# Altium schematic symbol library Schlib.SchLib: 41 symbols (part 1 of 2)
Pins are listed as number, name and electrical type; pins without a type are passive.

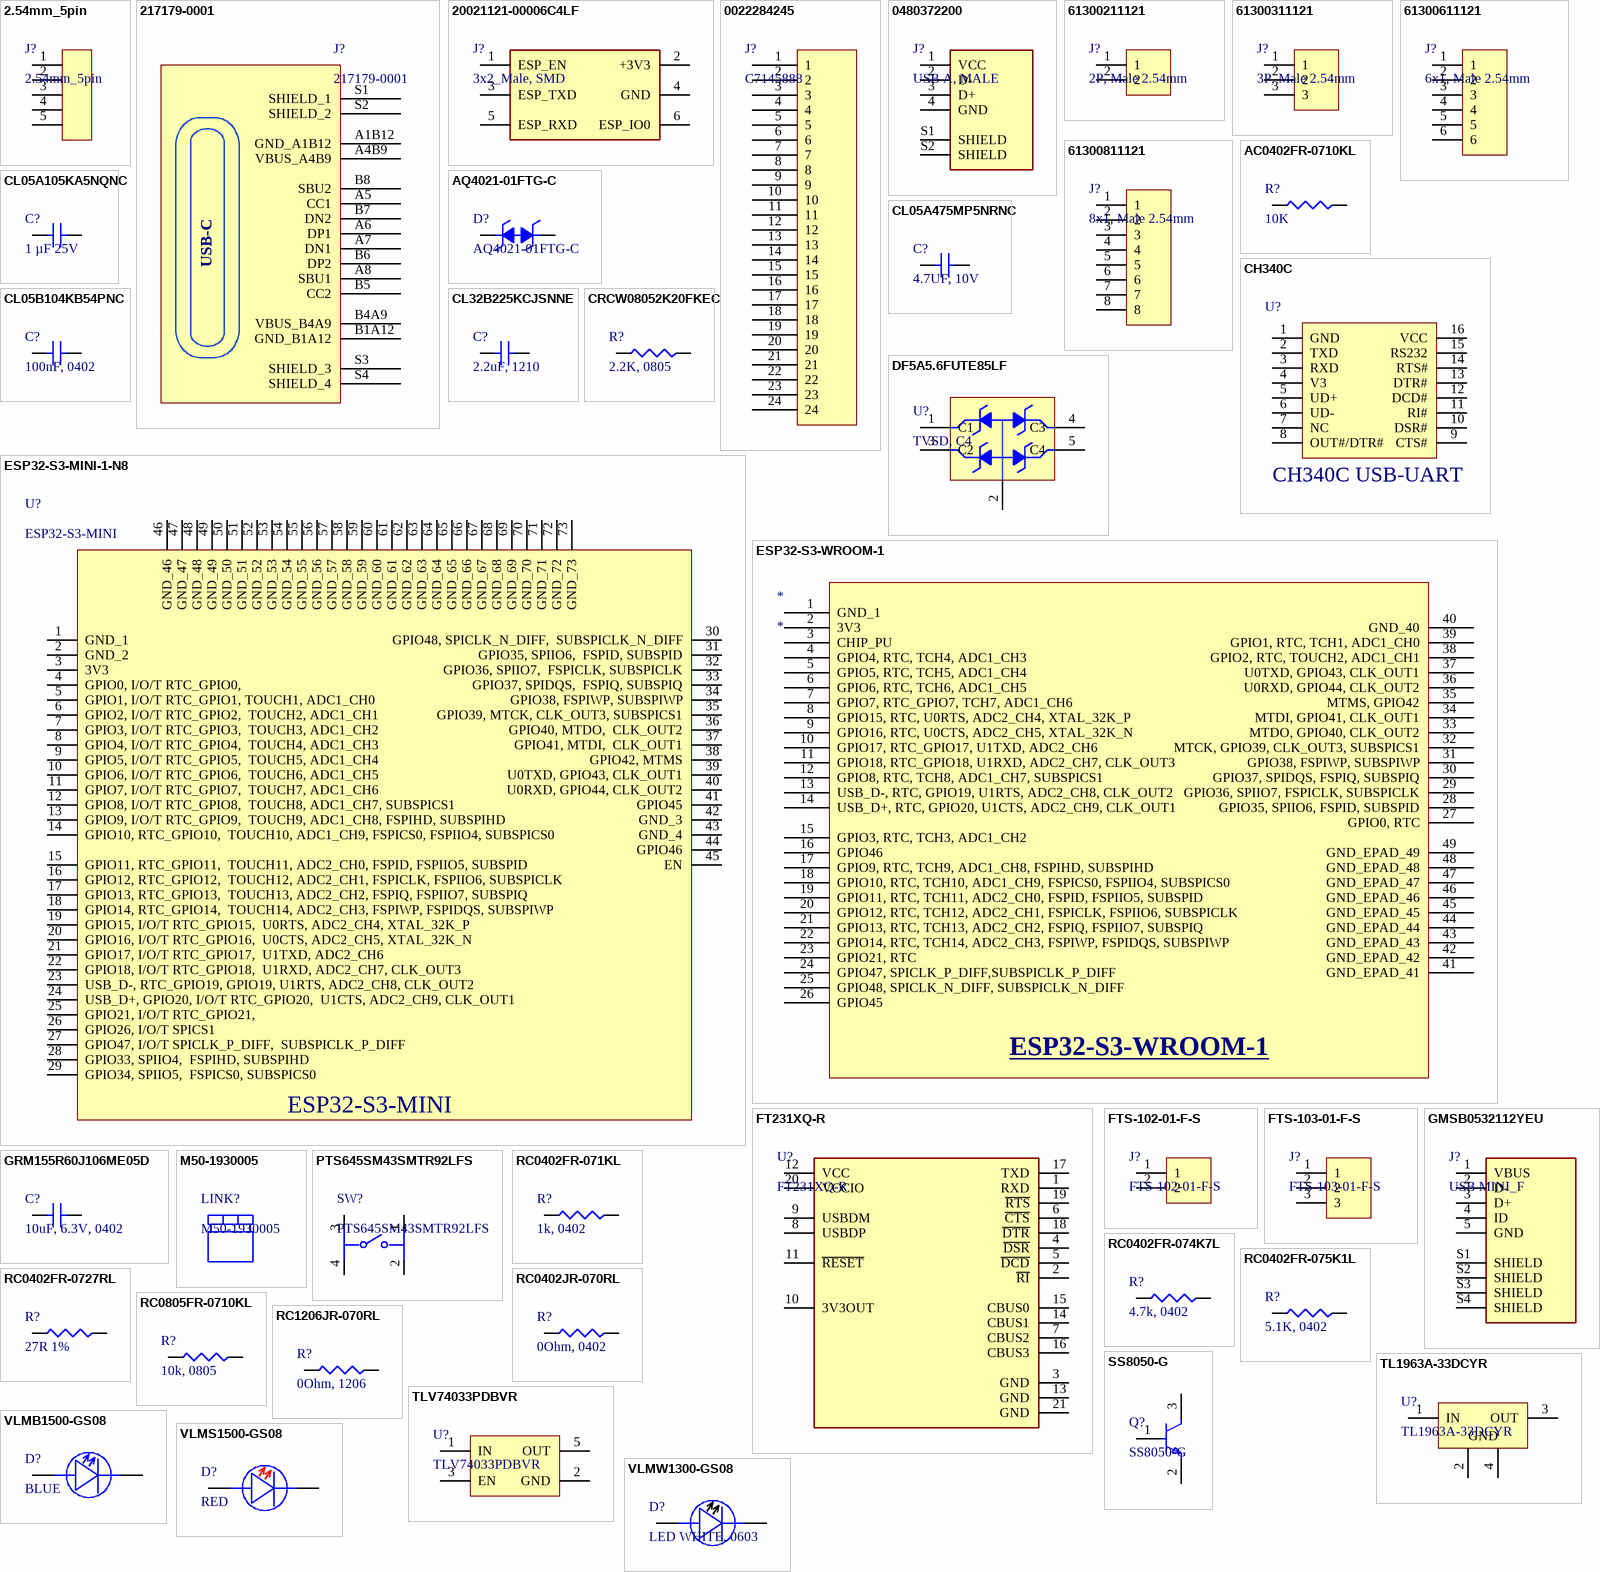
[diagram p0: symbols 2.54mm_5pin to VLMW1300-GS08]

## 2.54mm_5pin
designator J?
CONN HEADER VERT 5POS 2.54MM
footprint 5x1P_Male_2.54
pins: 1, 2, 3, 4, 5

## 217179-0001
designator J?
USB Type C - Connector, Top-mount SMT, 16pos | Molex Incorporated 217179-0001; Supplier: Digikey; Supplier Part Number: 900-2171790001CT-ND; Manufacturer: Molex; Manufacturer Part Number: 217179-0001; RoHS: No; Category: Connectors; Pricing: 1=0.9, 10=0.745, 100=0.6212 (USD); LCSC Part Number: C3197684
footprint USB_C_Female
pins: A1B12 GND_A1B12, A4B9 VBUS_A4B9, A5 CC1, A6 DP1, A7 DN1, A8 SBU1, B1A12 GND_B1A12, B4A9 VBUS_B4A9, B5 CC2, B6 DP2, B7 DN2, B8 SBU2, S1 SHIELD_1, S2 SHIELD_2, S3 SHIELD_3, S4 SHIELD_4
text: USB-C

## 20021121-00006C4LF
designator J?, comment 3x2_Male, SMD
CONN HEADER SMD 6POS 1.27MM; Manufacturer: Amphenol Communications Solutions; Manufacturer Part Number: 20021121-00006C4LF; Supplier: Digikey; Supplier Part Number: 609-3693-1-ND; RoHS: No; Category: Headers and Wire Housings; Stock: 7493; Pricing: 1=0.8, 10=0.612, 100=0.4694 (USD)
footprint 3x2P_Male_SMD_1.27
pins: 1 ESP_EN, 2 +3V3, 3 ESP_TXD, 4 GND, 5 ESP_RXD, 6 ESP_IO0

## 0022284245
designator J?, comment C7145888
CONN HEADER VERT 24POS 2.54MM; Manufacturer: Molex; Manufacturer Part Number: 0022284245; Connector Type: BOARD CONNECTOR; Option: General Purpose; Filter Feature: No; Mating Information: MULTIPLE MATING PARTS AVAILABLE; Number of Rows Loaded: 1; Number of Contacts: 24; Supplier: Digikey; Supplier Part Number: 900-0022284245-ND; RoHS: Yes; Category: Uncategorized; Stock: 2996; Pricing: 1=0.95, 10=0.789, 100=0.6579, 1000=0.57911 (USD); Mounting Technology: Board; Contact Material: Brass; Contact Finish - Mating: GOLD; Contact Finish - Termination: Tin (Sn); JESD-609 Code: e3; Contact Gender: Male; Mixed Contacts: No; Mounting Style: STRAIGHT; Termination: Solder; Terminal Pitch: 2.54mm; Flammability Rating: UL94 V-0; DIN Conformance: No; IEC Conformance: No; MIL Conformance: No; Reach SVHC Compliant: Yes; RoHS Compliant: Yes; ComponentLink1URL: https://datasheet.ciiva.com:443/pdfs/VipMasterIC/IC/MOLE/MOLE-S-A0006764423/MOLE-S-A0006877704-1.pdf?src-supplier=IHS+Markit; ComponentLink1Description: https://datasheet.ciiva.com:443/pdfs/VipMasterIC/IC/MOLE/MOLE-S-A0006764423/MOLE-S-A0006877704-1.pdf?src-supplier=IHS+Markit; ComponentLink2URL: https://datasheet.ciiva.com/6814/022284363-sd-6814049.pdf?src-supplier=Digikey; ComponentLink2Description: https://datasheet.ciiva.com/6814/022284363-sd-6814049.pdf?src-supplier=Digikey; ComponentLink3URL: https://datasheet.ciiva.com/10075/0022284245-pcb-headers-10075617.pdf?src-supplier=Avnet; ComponentLink3Description: https://datasheet.ciiva.com/10075/0022284245-pcb-headers-10075617.pdf?src-supplier=Avnet; ComponentLink4URL: https://datasheet.ciiva.com/5153/0022284245-pcb-headers-228340-5153875.pdf?src-supplier=Mouser; ComponentLink4Description: https://datasheet.ciiva.com/5153/0022284245-pcb-headers-228340-5153875.pdf?src-supplier=Mouser; ComponentLink5URL: https://datasheet.ciiva.com/1433/1597854-1433759.pdf?src-supplier=Element14; ComponentLink5Description: https://datasheet.ciiva.com/1433/1597854-1433759.pdf?src-supplier=Element14; LCSC Part Number: C7145888
footprint 24x1P_Male_2.54
pins: 1, 2, 3, 4, 5, 6, 7, 8, 9, 10, 11, 12, 13, 14, 15, 16, 17, 18, 19, 20, 21, 22, 23, 24

## 0480372200
designator J?, comment USB A, MALE
CONN PLUG USB2.0 TYPEA 4P SMD RA; Manufacturer: Molex; Manufacturer Part Number: 0480372200; Option: General Purpose; Empty Shell: No; Number of Contacts: 4; Mating Information: MULTIPLE MATING PARTS AVAILABLE; Supplier: Digikey; Supplier Part Number: WM3983CT-ND; RoHS: Yes; Stock: 18158; Pricing: 1=1.45, 10=1.199, 100=0.9993 (USD); Mounting Technology: Panel,Board; Contact Finish - Mating: GOLD (30); Contact Finish - Termination: TIN; Connector Type: USB; Body/Shell Style: PLUG; Contact Gender: Male; Filter Feature: No; Mixed Contacts: No; Mounting Style: RIGHT ANGLE; Termination: SMD/SMT; JESD-609 Code: e3; Reach SVHC Compliant: Yes; RoHS Compliant: Yes; DIN Conformance: No; IEC Conformance: No; MIL Conformance: No; ComponentLink1URL: https://datasheet.ciiva.com:443/pdfs/VipMasterIC/IC/MOLE/MOLES33218/MOLES28897-1.pdf?src-supplier=IHS+Markit; ComponentLink1Description: https://datasheet.ciiva.com:443/pdfs/VipMasterIC/IC/MOLE/MOLES33218/MOLES28897-1.pdf?src-supplier=IHS+Markit
footprint USB_A_MALE
pins: 1 VCC (power), 2 D-, 3 D+, 4 GND (power), S1 SHIELD, S2 SHIELD

## 61300211121
designator J?, comment 2P, Male 2.54mm
CONN HEADER VERT 2POS 2.54MM; Manufacturer: Wurth Electronics; Manufacturer Part Number: 61300211121; Connector Type: BOARD CONNECTOR; Option: General Purpose; Body/Shell Style: PLUG; Contact Pattern: RECTANGULAR; Contact Resistance: 20mR; Contact Style: SQ PIN-SKT; Dielectric Withstanding Voltage (AC): 500V; Filter Feature: No; Insulation Resistance: 1GR; Number Of Connectors: 1; Rated Current (Signal): 3A; Number of Contacts: 2; Body Breadth: 0.1inch; Body Length: 0.2inch; Mounting Option 1: LOCKING; Reference Standard: UL; Reliability: COMMERCIAL; Supplier: Digikey; Supplier Part Number: 732-5315-ND; RoHS: Yes; Category: Headers and Wire Housings; Stock: 71745; Pricing: 1=0.13, 10=0.113, 25=0.094, 50=0.079, 100=0.071, 1000=0.065 (USD); Mounting Technology: Board; Contact Material: Copper Alloy; Contact Finish - Mating: GOLD; Contact Finish - Termination: Gold (Au) - with Nickel (Ni) barrier; Insulation Color: Black; Insulation Material: Polybutylene; Min Operating Temperature: -40°C; Max Operating Temperature: 125°C; JESD-609 Code: e4; Contact Gender: Male; Mixed Contacts: No; Mounting Style: STRAIGHT; Number of Rows Loaded: 1; PCB Contact Pattern: RECTANGULAR; Termination: Solder; Body Depth: 0.1inch; Mating Contact Pitch: 0.1inch; Terminal Length: 0.118inch; Terminal Pitch: 2.54mm; Flammability Rating: UL94 V-0; Reach SVHC Compliant: Yes; RoHS Compliant: Yes; DIN Conformance: No; IEC Conformance: No; MIL Conformance: No; ComponentLink1URL: https://datasheet.ciiva.com:443/pdfs/VipMasterIC/IC/MIDC/MIDCS07676/MIDCS07676-1.pdf?src-supplier=IHS+Markit; ComponentLink1Description: https://datasheet.ciiva.com:443/pdfs/VipMasterIC/IC/MIDC/MIDCS07676/MIDCS07676-1.pdf?src-supplier=IHS+Markit; ComponentLink2URL: https://datasheet.ciiva.com/13619/6130xx11121-48870-13619345.pdf?src-supplier=Mouser; ComponentLink2Description: https://datasheet.ciiva.com/13619/6130xx11121-48870-13619345.pdf?src-supplier=Mouser
footprint 2x1P_Male_2.54 (Pin Header, pitch 2.54 mm, THT, Vertical, single row, 2p)
pins: 1, 2

## 61300311121
designator J?, comment 3P, Male 2.54mm
CONN HEADER VERT 3POS 2.54MM; Manufacturer: Wurth Electronics; Manufacturer Part Number: 61300311121; Connector Type: BOARD CONNECTOR; Body/Shell Style: PLUG; Contact Pattern: RECTANGULAR; Contact Resistance: 20mR; Contact Style: SQ PIN-SKT; Dielectric Withstanding Voltage (AC): 500V; Insulation Resistance: 1GR; Number Of Connectors: 1; Rated Current (Signal): 3A; Number of Contacts: 3; Body Breadth: 0.1inch; Body Length: 0.3inch; Mounting Option 1: LOCKING; Reference Standard: UL; Reliability: COMMERCIAL; Supplier: Digikey; Supplier Part Number: 732-5316-ND; RoHS: Yes; Category: Headers and Wire Housings; Stock: 134142; Pricing: 1=0.13, 10=0.113, 25=0.094, 50=0.079, 100=0.071, 1000=0.066 (USD); Mounting Technology: Board; Contact Material: Copper Alloy; Contact Finish - Mating: GOLD; Contact Finish - Termination: Gold (Au) - with Nickel (Ni) barrier; Insulation Color: Black; Insulation Material: Polybutylene; Min Operating Temperature: -40°C; Max Operating Temperature: 125°C; JESD-609 Code: e4; Contact Gender: Male; Mounting Style: STRAIGHT; Number of Rows Loaded: 1; PCB Contact Pattern: RECTANGULAR; Termination: Solder; Body Depth: 0.1inch; Mating Contact Pitch: 0.1inch; Terminal Length: 0.118inch; Terminal Pitch: 2.54mm; Reach SVHC Compliant: Yes; RoHS Compliant: Yes; ComponentLink1URL: https://datasheet.ciiva.com:443/pdfs/VipMasterIC/IC/MIDC/MIDCS07676/MIDCS07676-1.pdf?src-supplier=IHS+Markit; ComponentLink1Description: https://datasheet.ciiva.com:443/pdfs/VipMasterIC/IC/MIDC/MIDCS07676/MIDCS07676-1.pdf?src-supplier=IHS+Markit; ComponentLink2URL: http://www.farnell.com/cad/1737268.pdf?src-supplier=Element14; ComponentLink2Description: http://www.farnell.com/cad/1737268.pdf?src-supplier=Element14; ComponentLink3URL: https://datasheet.octopart.com/61300311121-W%C3%BCrth-Elektronik-datasheet-21154836.pdf?src-supplier=Element14; ComponentLink3Description: https://datasheet.octopart.com/61300311121-W%C3%BCrth-Elektronik-datasheet-21154836.pdf?src-supplier=Element14; ComponentLink4URL: https://katalog.we-online.de/em/datasheet/6130xx11121.pdf?src-supplier=Digikey; ComponentLink4Description: https://katalog.we-online.de/em/datasheet/6130xx11121.pdf?src-supplier=Digikey
footprint 3x1P_Male_2.54 (Pin Header, pitch 2.54 mm, THT, Vertical, single row, 3p)
pins: 1, 2, 3

## 61300611121
designator J?, comment 6x1, Male 2.54mm
Connector Header Through Hole 6 position 0.100" (2.54mm); Manufacturer: Wurth Electronics; Manufacturer Part Number: 61300611121; Connector Type: BOARD CONNECTOR; Body/Shell Style: PLUG; Contact Pattern: RECTANGULAR; Contact Resistance: 20mR; Contact Style: SQ PIN-SKT; Dielectric Withstanding Voltage (AC): 500V; Insulation Resistance: 1GR; Number Of Connectors: 1; Rated Current (Signal): 3A; Number of Contacts: 6; Body Breadth: 0.1inch; Body Length: 0.6inch; Mounting Option 1: LOCKING; Reference Standard: UL; Reliability: COMMERCIAL; Supplier: Digikey; Supplier Part Number: 732-5319-ND; RoHS: Yes; Category: Headers and Wire Housings; Stock: 21798; Pricing: 1=0.34, 10=0.298, 25=0.2472, 50=0.207, 100=0.187, 1000=0.171 (USD); Mounting Technology: Board; Contact Material: Copper Alloy; Contact Finish - Mating: GOLD; Contact Finish - Termination: Gold (Au) - with Nickel (Ni) barrier; Insulation Color: Black; Insulation Material: Polybutylene; Min Operating Temperature: -40°C; Max Operating Temperature: 125°C; JESD-609 Code: e4; Contact Gender: Male; Mounting Style: STRAIGHT; Number of Rows Loaded: 1; PCB Contact Pattern: RECTANGULAR; Termination: Solder; Body Depth: 0.1inch; Mating Contact Pitch: 0.1inch; Terminal Length: 0.118inch; Terminal Pitch: 2.54mm; Reach SVHC Compliant: Yes; RoHS Compliant: Yes; ComponentLink1URL: https://datasheet.ciiva.com:443/pdfs/VipMasterIC/IC/MIDC/MIDCS07676/MIDCS07676-1.pdf?src-supplier=IHS+Markit; ComponentLink1Description: https://datasheet.ciiva.com:443/pdfs/VipMasterIC/IC/MIDC/MIDCS07676/MIDCS07676-1.pdf?src-supplier=IHS+Markit; ComponentLink2URL: http://www.mouser.com/ds/2/445/6130xx11121-538006.pdf?src-supplier=Mouser; ComponentLink2Description: http://www.mouser.com/ds/2/445/6130xx11121-538006.pdf?src-supplier=Mouser; ComponentLink3URL: http://www.farnell.com/cad/1737268.pdf?src-supplier=Element14; ComponentLink3Description: http://www.farnell.com/cad/1737268.pdf?src-supplier=Element14; ComponentLink4URL: https://datasheet.octopart.com/61300611121-W%C3%BCrth-Elektronik-datasheet-21154836.pdf?src-supplier=Element14; ComponentLink4Description: https://datasheet.octopart.com/61300611121-W%C3%BCrth-Elektronik-datasheet-21154836.pdf?src-supplier=Element14; ComponentLink5URL: https://katalog.we-online.de/em/datasheet/6130xx11121.pdf?src-supplier=Digikey; ComponentLink5Description: https://katalog.we-online.de/em/datasheet/6130xx11121.pdf?src-supplier=Digikey
footprint 6x1P_Male_2.54 (Pin Header, pitch 2.54 mm, THT, Vertical, single row, 6p)
pins: 1, 2, 3, 4, 5, 6

## 61300811121
designator J?, comment 8x1, Male 2.54mm
CONN HEADER VERT 8POS 2.54MM; Manufacturer: Wurth Electronics; Manufacturer Part Number: 61300811121; Manufacturer Series: 613; Connector Type: BOARD CONNECTOR; Body/Shell Style: PLUG; Contact Pattern: RECTANGULAR; Contact Resistance: 20mR; Contact Style: SQ PIN-SKT; Dielectric Withstanding Voltage (AC): 500V; Insulation Resistance: 1GR; Number Of Connectors: 1; Rated Current (Signal): 3A; Number of Contacts: 8; Body Breadth: 0.1inch; Body Length: 0.8inch; Mounting Option 1: LOCKING; Reference Standard: UL; Reliability: COMMERCIAL; Supplier: Digikey; Supplier Part Number: 732-5321-ND; RoHS: Yes; Category: Headers and Wire Housings; Stock: 8009; Pricing: 1=0.39, 10=0.336, 25=0.28, 50=0.234, 100=0.212, 1000=0.193 (USD); Mounting Technology: Board; Contact Material: Copper Alloy; Contact Finish - Mating: AU; Contact Finish - Termination: Gold (Au) - with Nickel (Ni) barrier; Insulation Color: Black; Insulation Material: Polybutylene; Min Operating Temperature: -40°C; Max Operating Temperature: 125°C; JESD-609 Code: e4; Contact Gender: Male; Mounting Style: STRAIGHT; Number of Rows Loaded: 1; PCB Contact Pattern: RECTANGULAR; Termination: Solder; Body Depth: 0.1inch; Mating Contact Pitch: 0.1inch; Terminal Length: 0.118inch; Terminal Pitch: 2.54mm; Reach SVHC Compliant: Yes; RoHS Compliant: Yes; ComponentLink1URL: https://datasheet.ciiva.com:443/pdfs/VipMasterIC/IC/MIDC/MIDCS07676/MIDCS07676-1.pdf?src-supplier=IHS+Markit; ComponentLink1Description: https://datasheet.ciiva.com:443/pdfs/VipMasterIC/IC/MIDC/MIDCS07676/MIDCS07676-1.pdf?src-supplier=IHS+Markit; ComponentLink2URL: https://datasheet.octopart.com/61300811121-W%C3%BCrth-Elektronik-datasheet-21154836.pdf?src-supplier=Element14; ComponentLink2Description: https://datasheet.octopart.com/61300811121-W%C3%BCrth-Elektronik-datasheet-21154836.pdf?src-supplier=Element14; ComponentLink3URL: https://katalog.we-online.de/em/datasheet/6130xx11121.pdf?src-supplier=Digikey; ComponentLink3Description: https://katalog.we-online.de/em/datasheet/6130xx11121.pdf?src-supplier=Digikey
footprint 8x1P_Male_2.54 (Pin Header, pitch 2.54 mm, THT, Vertical, single row, 8p)
pins: 1, 2, 3, 4, 5, 6, 7, 8

## AC0402FR-0710KL
designator R?, comment 10K
10 kOhm, ± 1%, 62.5 mW, 0402 [1005 Metric], SMD Chip Resistor, Thick Film, General Purpose; Manufacturer: Yageo; Manufacturer Part Number: AC0402FR-0710KL; Value: 10kR; Power Rating: 62.5mW; Voltage Rating: 50V; Temperature Coefficient: 100ppm/°C; Max Power Dissipation: 63mW; Supplier: Digikey; Supplier Part Number: YAG3436CT-ND; RoHS: Yes; Category: Chip SMD Resistors; Stock: 2394753; Pricing: 1=0.1, 10=0.019, 50=0.0116, 100=0.0095, 500=0.00638, 1000=0.00544, 5000=0.00391 (USD); Case/Package: 0402; Case Code (Imperial): 0402; Case Code (Metric): 1005; Min Operating Temperature: -55°C; Max Operating Temperature: 155°C; Tolerance: 1%; Packaging: Tape and Reel; Termination: SMD/SMT; Number of Terminations: 2; Features: Moisture Resistant,Automotive AEC-Q200; Series: AC; Length: 0.039inch; Width: 0.02inch; Height: 0.015inch; Lead Free: Lead Free; RoHS Compliant: Yes; ComponentLink1URL: https://datasheet.ciiva.com/12656/pyu-ac-51-rohs-l-2-12656634.pdf?src-supplier=Mouser; ComponentLink1Description: https://datasheet.ciiva.com/12656/pyu-ac-51-rohs-l-2-12656634.pdf?src-supplier=Mouser; LCSC Part Number: C144807
footprint RES_0402
pins: 1, 2

## AQ4021-01FTG-C
designator D?
TVS DIODE 5VWM 20.5VC SOD323; Manufacturer: Littelfuse; Diode Type: TRANS VOLTAGE SUPPRESSOR; Time @ Peak Reflow Temperature-Max (s): 40s; Supplier: Digikey; Supplier Part Number: F10397CT-ND; Manufacturer Part Number: AQ4021-01FTG-C; RoHS: Yes; Category: TVS Diodes; Stock: 6289; Pricing: 1=0.57, 10=0.498, 100=0.3447, 500=0.28802, 1000=0.24513 (USD); Terminal Finish: Tin; JESD-609 Code: e3; Moisture Sensitivity Level: 1; Peak Reflow Temperature (Cel): 260°C; Reach SVHC Compliant: Yes; RoHS Compliant: Yes; ComponentLink1URL: https://datasheet.ciiva.com:443/pdfs/VipMasterIC/IC/LFSI/LFSI-S-A0009000937/LFSI-S-A0009000937-1.pdf?src-supplier=IHS+Markit; ComponentLink1Description: https://datasheet.ciiva.com:443/pdfs/VipMasterIC/IC/LFSI/LFSI-S-A0009000937/LFSI-S-A0009000937-1.pdf?src-supplier=IHS+Markit; ComponentLink2URL: http://www.farnell.com/datasheets/2571805.pdf?src-supplier=Farnell; ComponentLink2Description: http://www.farnell.com/datasheets/2571805.pdf?src-supplier=Farnell; ComponentLink3URL: http://www.farnell.com/datasheets/2571805.pdf?src-supplier=Newark; ComponentLink3Description: http://www.farnell.com/datasheets/2571805.pdf?src-supplier=Newark; ComponentLink4URL: http://www.littelfuse.com/~/media/electronics/datasheets/tvs_diode_arrays/littelfuse_tvs_diode_array_aq4021_datasheet.pdf.pdf?src-supplier=Digikey; ComponentLink4Description: http://www.littelfuse.com/~/media/electronics/datasheets/tvs_diode_arrays/littelfuse_tvs_diode_array_aq4021_datasheet.pdf.pdf?src-supplier=Digikey; ComponentLink5URL: https://www.littelfuse.com/~/media/electronics/datasheets/tvs_diode_arrays/littelfuse_tvs_diode_array_aq4021_datasheet.pdf.pdf?src-supplier=Digikey; ComponentLink5Description: https://www.littelfuse.com/~/media/electronics/datasheets/tvs_diode_arrays/littelfuse_tvs_diode_array_aq4021_datasheet.pdf.pdf?src-supplier=Digikey; LCSC Part Number: C708873
footprint SOD323
pins: 1, 2

## CH340C
designator U?, comment USB-UART  (value not drawn)
SOP-16 USB to UART Converters
footprint SOP16
pins: 1 GND, 2 TXD, 3 RXD, 4 V3, 5 UD+, 6 UD-, 7 NC, 8 OUT#/DTR#, 9 CTS#, 10 DSR#, 11 RI#, 12 DCD#, 13 DTR#, 14 RTS#, 15 RS232, 16 VCC
text: CH340C USB-UART

## CL05A105KA5NQNC
designator C?, comment 1 µF 25V
1 µF ±10% 25V Ceramic Capacitor X5R 0402 (1005 Metric); Manufacturer: Samsung; Manufacturer Part Number: CL05A105KA5NQNC; Value: 1uF; Multilayer: Yes; Supplier: Digikey; Supplier Part Number: 1276-1445-1-ND; RoHS: Yes; Category: Ceramic Capacitors; Stock: 1937229; Pricing: 1=0.18, 10=0.124, 50=0.0742, 100=0.0584, 500=0.04312, 1000=0.0357, 2500=0.03323, 5000=0.0304 (USD); Mounting Technology: Surface Mount; Pins: 2; Case/Package: 0402; Terminal Finish: Nickel; Dielectric Material: Ceramic; Package Shape: Rectangular; Min Operating Temperature: -55°C; Max Operating Temperature: 85°C; JESD-609 Code: e3; Package Style: SMTMeter; Packaging: Tape and Reel; Termination: Wraparound; Capacitor Type: Ceramic; Tolerance  (fill in as +-): 10%; Tolerance (fill in as +-): 10%; Rated DC Voltage (URdc): 25V; Temperature Characteristics Code: X5R; Length: 1mm; Width: 0.5mm; Height: 0.6mm; Reach SVHC Compliant: Yes; RoHS Compliant: Yes; ComponentLink1URL: https://datasheet.ciiva.com:443/pdfs/VipMasterIC/IC/SEMS/SEMS-S-A0008384515/SEMS-S-A0008872946-1.pdf?src-supplier=IHS+Markit; ComponentLink1Description: https://datasheet.ciiva.com:443/pdfs/VipMasterIC/IC/SEMS/SEMS-S-A0008384515/SEMS-S-A0008872946-1.pdf?src-supplier=IHS+Markit; ComponentLink2URL: https://datasheet.ciiva.com/25720/cl05a105ka5nqnc-25720771.pdf?src-supplier=Digikey; ComponentLink2Description: https://datasheet.ciiva.com/25720/cl05a105ka5nqnc-25720771.pdf?src-supplier=Digikey; ComponentLink3URL: https://datasheet.ciiva.com/3777/cl05a105ka5nqnc-3777709.pdf?src-supplier=Arrow+Electronics; ComponentLink3Description: https://datasheet.ciiva.com/3777/cl05a105ka5nqnc-3777709.pdf?src-supplier=Arrow+Electronics; ComponentLink4URL: https://datasheet.ciiva.com/29198/459147-da-01-en-vs-kondensator-0402-29198339.pdf?src-supplier=Conrad; ComponentLink4Description: https://datasheet.ciiva.com/29198/459147-da-01-en-vs-kondensator-0402-29198339.pdf?src-supplier=Conrad; LCSC Part Number: C52923
footprint CAP_0402
pins: 1, 2

## CL05A475MP5NRNC
designator C?, comment 4.7UF, 10V
CAP CER 4.7UF 10V X5R 0402; Manufacturer: Samsung; Manufacturer Part Number: CL05A475MP5NRNC; Dielectric Material: Ceramic; Multilayer: Yes; Tolerance  (fill in as +-): 20%; Supplier: Digikey; Supplier Part Number: 1276-1482-1-ND; RoHS: Yes; Category: Ceramic Capacitors; Stock: 2427092; Pricing: 1=0.1, 10=0.064, 50=0.0368, 100=0.0286, 500=0.0215, 1000=0.01689, 2500=0.01535, 5000=0.01412 (USD); Mounting Technology: Surface Mount; Pins: 2; Package Shape: Rectangular; Case/Package: 0402; Terminal Finish: Nickel; Min Operating Temperature: -55°C; Max Operating Temperature: 85°C; JESD-609 Code: e3; Value: 4.7uF; Capacitor Type: Ceramic; Package Style: SMTMeter; Packaging: Tape and Reel; Tolerance (fill in as +-): 20%; Rated DC Voltage (URdc): 10V; Temperature Characteristics Code: X5R; Termination: Wraparound; Length: 1mm; Width: 0.5mm; Height: 0.65mm; Reach SVHC Compliant: Yes; RoHS Compliant: Yes; ComponentLink1URL: https://datasheet.ciiva.com:443/pdfs/VipMasterIC/IC/SEMS/SEMS-S-A0009022611/SEMS-S-A0009022611-1.pdf?src-supplier=IHS+Markit; ComponentLink1Description: https://datasheet.ciiva.com:443/pdfs/VipMasterIC/IC/SEMS/SEMS-S-A0009022611/SEMS-S-A0009022611-1.pdf?src-supplier=IHS+Markit; ComponentLink2URL: https://datasheet.ciiva.com/25786/cl05a475mp5nrnc-25786963.pdf?src-supplier=Digikey; ComponentLink2Description: https://datasheet.ciiva.com/25786/cl05a475mp5nrnc-25786963.pdf?src-supplier=Digikey; ComponentLink3URL: https://datasheet.ciiva.com/16437/cl05b104kq5nnnc-16437353.pdf?src-supplier=Future+Electronics; ComponentLink3Description: https://datasheet.ciiva.com/16437/cl05b104kq5nnnc-16437353.pdf?src-supplier=Future+Electronics; LCSC Part Number: C23733
footprint CAP_0402
pins: 1, 2

## CL05B104KB54PNC
designator C?, comment 100nF, 0402
0.1 µF ±10% 50V Ceramic Capacitor X7R 0402 (1005 Metric); Manufacturer: Samsung; Manufacturer Part Number: CL05B104KB54PNC; Material: 4241ConductorMaterial; Supplier: Arrow Electronics; Supplier Part Number: CL05B104KB54PNC; RoHS: Yes; Category: Ceramic Capacitors; Stock: 2120000; Pricing: 10000=0.0057 (USD); Case/Package: 343Case; Min Operating Temperature: -55°C; Max Operating Temperature: 125°C; Tolerance: 10%; Voltage Rating: 50V; Value: 100nF; Height: 550um; RoHS Compliant: Yes; ComponentLink1URL: https://datasheet.octopart.com/CL05B104KB54PNC-Samsung-datasheet-8326407.pdf?src-supplier=TME; ComponentLink1Description: https://datasheet.octopart.com/CL05B104KB54PNC-Samsung-datasheet-8326407.pdf?src-supplier=TME; LCSC Part Number: C307331
footprint CAP_0402
pins: 1, 2

## CL32B225KCJSNNE
designator C?, comment 2.2uF, 1210
CAP CER 2.2UF 100V X7R 1210; Manufacturer: Samsung; Manufacturer Part Number: CL32B225KCJSNNE; Dielectric Material: Ceramic; Multilayer: Yes; Tolerance  (fill in as +-): 10%; Supplier: Digikey; Supplier Part Number: 1276-3362-6-ND; RoHS: Yes; Category: Ceramic Capacitors; Stock: 239814; Pricing: 1=0.43, 10=0.286, 50=0.228, 100=0.1882, 500=0.14706 (USD); Mounting Technology: Surface Mount; Pins: 2; Package Shape: Rectangular; Case/Package: 1210; Terminal Finish: Nickel; Min Operating Temperature: -55°C; Max Operating Temperature: 125°C; JESD-609 Code: e3; Value: 2.2uF; Capacitor Type: Ceramic; Packaging: Tape and Reel; Tolerance (fill in as +-): 10%; Rated DC Voltage (URdc): 100V; Temperature Characteristics Code: X7R; Termination: Wraparound; Reach SVHC Compliant: Yes; RoHS Compliant: Yes; ComponentLink1URL: https://datasheet.ciiva.com:443/pdfs/VipMasterIC/IC/SEMS/SEMS-S-A0008526420/SEMS-S-A0008525306-1.pdf?src-supplier=IHS+Markit; ComponentLink1Description: https://datasheet.ciiva.com:443/pdfs/VipMasterIC/IC/SEMS/SEMS-S-A0008526420/SEMS-S-A0008525306-1.pdf?src-supplier=IHS+Markit; ComponentLink2URL: https://datasheet.ciiva.com/25791/cl32b225kcjsnne-25791527.pdf?src-supplier=Digikey; ComponentLink2Description: https://datasheet.ciiva.com/25791/cl32b225kcjsnne-25791527.pdf?src-supplier=Digikey; ComponentLink3URL: https://datasheet.ciiva.com/26947/getdatasheetpartid-357497-26947037.pdf?src-supplier=Verical; ComponentLink3Description: https://datasheet.ciiva.com/26947/getdatasheetpartid-357497-26947037.pdf?src-supplier=Verical; ComponentLink4URL: https://datasheet.ciiva.com/16437/cl32b225kcjsnne-16437175.pdf?src-supplier=Future+Electronics; ComponentLink4Description: https://datasheet.ciiva.com/16437/cl32b225kcjsnne-16437175.pdf?src-supplier=Future+Electronics
footprint CAP_1210
pins: 1, 2

## CRCW08052K20FKEC
designator R?, comment 2.2K, 0805
RES SMD 2.2K OHM 1% 1/8W 0805; Manufacturer: Vishay Dale; Manufacturer Part Number: CRCW08052K20FKEC; Power: 125mW; Rated Temperature: 70°C; Value: 2.2kR; Temperature Coefficient: 100ppm/°C; Working Voltage: 150V; Package Height: 0.45mm; Package Length: 2mm; Package Width: 1.25mm; Reference Standard: AEC-Q200; Supplier: Digikey; Supplier Part Number: 541-CRCW08052K20FKECCT-ND; RoHS: Yes; Category: Chip SMD Resistors; Stock: 19945; Pricing: 1=0.1, 10=0.039, 50=0.025, 100=0.021, 500=0.01444, 1000=0.0125, 5000=0.00933, 10000=0.00838 (USD); Mounting Technology: Surface Mount; Pins: 2; Package Shape: Rectangular; Case/Package: 0805; Terminal Finish: Nickel; Min Operating Temperature: -55°C; Max Operating Temperature: 155°C; Tolerance: 1%; JESD-609 Code: e3; Resistor Type: FIXED RESISTOR; Construction: Chip; Package Style: SMTMeter; Packaging: Tape and Reel; Technology: METAL GLAZE/THICK FILM; Termination: Wraparound; Reach SVHC Compliant: Yes; RoHS Compliant: Yes; ComponentLink1URL: https://datasheet.ciiva.com:443/pdfs/VipMasterIC/IC/VISH/VISH-S-A0007266705/VISH-S-A0007266705-1.pdf?src-supplier=IHS+Markit; ComponentLink1Description: https://datasheet.ciiva.com:443/pdfs/VipMasterIC/IC/VISH/VISH-S-A0007266705/VISH-S-A0007266705-1.pdf?src-supplier=IHS+Markit; ComponentLink2URL: http://www.vishay.com/docs/20035/dcrcwe3.pdf?src-supplier=Digikey; ComponentLink2Description: http://www.vishay.com/docs/20035/dcrcwe3.pdf?src-supplier=Digikey
footprint RES_0805
pins: 1, 2

## DF5A5.6FUTE85LF
designator U?, comment TVSD, C4
TVS Quad Common Anode 5.6V 200mW 5-Pin SOT-353 Embossed T/R; Manufacturer: Toshiba; Manufacturer Part Number: DF5A5.6FUTE85LF; Supplier: Digikey; Supplier Part Number: DF5A5.6FUTE85LFCT-ND; RoHS: Yes; Category: TVS Diodes; Stock: 11607; Pricing: 1=0.34, 10=0.21, 100=0.1318, 500=0.09776, 1000=0.08675 (USD); ComponentLink1URL: https://datasheet.ciiva.com/29853/dst-df5a5-6fu-tde-en-9420-29853417.pdf?src-supplier=Digikey; ComponentLink1Description: https://datasheet.ciiva.com/29853/dst-df5a5-6fu-tde-en-9420-29853417.pdf?src-supplier=Digikey; ComponentLink2URL: https://datasheet.ciiva.com/29853/dst-df5a5-6fu-tde-en-9420-29853419.pdf?src-supplier=Digikey; ComponentLink2Description: https://datasheet.ciiva.com/29853/dst-df5a5-6fu-tde-en-9420-29853419.pdf?src-supplier=Digikey; ComponentLink3URL: https://datasheet.ciiva.com/29853/dst-df5a5-6fu-tde-en-9420-29853418.pdf?src-supplier=Digikey; ComponentLink3Description: https://datasheet.ciiva.com/29853/dst-df5a5-6fu-tde-en-9420-29853418.pdf?src-supplier=Digikey
footprint SOT353 (SOTFL, 5-Leads, Body 2.01x2.11mm, Pitch 0.65mm, IPC Medium Density)
pins: 1 C1, 2 A, 3 C2, 4 C3, 5 C4

## ESP32-S3-MINI-1-N8
designator U?, comment ESP32-S3-MINI
ESP32-S3FN8, 8 MB SPI flash, PCB antenna; Manufacturer: Espressif Systems; Manufacturer Part Number: ESP32-S3-MINI-1-N8; Supplier: Digikey; Supplier Part Number: 1965-ESP32-S3-MINI-1-N8CT-ND; RoHS: No; Category: LDO; Stock: 19254; Pricing: 1=3.1 (USD); ComponentLink1URL: https://datasheet.octopart.com/ESP32-S3-MINI-1-N8-Espressif-Systems-datasheet-165560562.pdf?src-supplier=TME; ComponentLink1Description: https://datasheet.octopart.com/ESP32-S3-MINI-1-N8-Espressif-Systems-datasheet-165560562.pdf?src-supplier=TME; LCSC Part Number: C2913206
footprint ESP32-S3-MINI-1-N8
pins: 1 GND_1, 2 GND_2, 3 3V3, 4 GPIO0, I/O/T RTC_GPIO0,, 5 GPIO1, I/O/T RTC_GPIO1, TOUCH1, ADC1_CH0, 6 GPIO2, I/O/T RTC_GPIO2,  TOUCH2, ADC1_CH1, 7 GPIO3, I/O/T RTC_GPIO3,  TOUCH3, ADC1_CH2, 8 GPIO4, I/O/T RTC_GPIO4,  TOUCH4, ADC1_CH3, 9 GPIO5, I/O/T RTC_GPIO5,  TOUCH5, ADC1_CH4, 10 GPIO6, I/O/T RTC_GPIO6,  TOUCH6, ADC1_CH5, 11 GPIO7, I/O/T RTC_GPIO7,  TOUCH7, ADC1_CH6, 12 GPIO8, I/O/T RTC_GPIO8,  TOUCH8, ADC1_CH7, SUBSPICS1, 13 GPIO9, I/O/T RTC_GPIO9,  TOUCH9, ADC1_CH8, FSPIHD, SUBSPIHD, 14 GPIO10, RTC_GPIO10,  TOUCH10, ADC1_CH9, FSPICS0, FSPIIO4, SUBSPICS0, 15 GPIO11, RTC_GPIO11,  TOUCH11, ADC2_CH0, FSPID, FSPIIO5, SUBSPID, 16 GPIO12, RTC_GPIO12,  TOUCH12, ADC2_CH1, FSPICLK, FSPIIO6, SUBSPICLK, 17 GPIO13, RTC_GPIO13,  TOUCH13, ADC2_CH2, FSPIQ, FSPIIO7, SUBSPIQ, 18 GPIO14, RTC_GPIO14,  TOUCH14, ADC2_CH3, FSPIWP, FSPIDQS, SUBSPIWP, 19 GPIO15, I/O/T RTC_GPIO15,  U0RTS, ADC2_CH4, XTAL_32K_P, 20 GPIO16, I/O/T RTC_GPIO16,  U0CTS, ADC2_CH5, XTAL_32K_N, 21 GPIO17, I/O/T RTC_GPIO17,  U1TXD, ADC2_CH6, 22 GPIO18, I/O/T RTC_GPIO18,  U1RXD, ADC2_CH7, CLK_OUT3, 23 USB_D-, RTC_GPIO19, GPIO19, U1RTS, ADC2_CH8, CLK_OUT2, 24 USB_D+, GPIO20, I/O/T RTC_GPIO20,  U1CTS, ADC2_CH9, CLK_OUT1, 25 GPIO21, I/O/T RTC_GPIO21,, 26 GPIO26, I/O/T SPICS1, 27 GPIO47, I/O/T SPICLK_P_DIFF,  SUBSPICLK_P_DIFF, 28 GPIO33, SPIIO4,  FSPIHD, SUBSPIHD, 29 GPIO34, SPIIO5,  FSPICS0, SUBSPICS0, 30 GPIO48, SPICLK_N_DIFF,  SUBSPICLK_N_DIFF, 31 GPIO35, SPIIO6,  FSPID, SUBSPID, 32 GPIO36, SPIIO7,  FSPICLK, SUBSPICLK, 33 GPIO37, SPIDQS,  FSPIQ, SUBSPIQ, 34 GPIO38, FSPIWP, SUBSPIWP, 35 GPIO39, MTCK, CLK_OUT3, SUBSPICS1, 36 GPIO40, MTDO,  CLK_OUT2, 37 GPIO41, MTDI,  CLK_OUT1, 38 GPIO42, MTMS, 39 U0TXD, GPIO43, CLK_OUT1, 40 U0RXD, GPIO44, CLK_OUT2, 41 GPIO45, 42 GND_3, 43 GND_4, 44 GPIO46, 45 EN, 46 GND_46, 47 GND_47, 48 GND_48, 49 GND_49, 50 GND_50, 51 GND_51, 52 GND_52, 53 GND_53, 54 GND_54, 55 GND_55, 56 GND_56, 57 GND_57, 58 GND_58, 59 GND_59, 60 GND_60, 61 GND_61, 62 GND_62, 63 GND_63, 64 GND_64, 65 GND_65, 66 GND_66, 67 GND_67, 68 GND_68, 69 GND_69, 70 GND_70, 71 GND_71, 72 GND_72, 73 GND_73

## ESP32-S3-WROOM-1
designator *
SMD module, ESP32-S3, 8 MB SPI flash, PCB antenna; Manufacturer: Espressif Systems; Manufacturer Part Number: ESP32-S3-WROOM-1-N8; Supplier: Digikey; Supplier Part Number: 1965-ESP32-S3-WROOM-1-N8CT-ND; RoHS: No; Category: LDO; Stock: 5768; Pricing: 1=3.2 (USD); LCSC Part Number: C2913198
pins: 1 GND_1, 2 3V3, 3 CHIP_PU, 4 GPIO4, RTC, TCH4, ADC1_CH3, 5 GPIO5, RTC, TCH5, ADC1_CH4, 6 GPIO6, RTC, TCH6, ADC1_CH5, 7 GPIO7, RTC_GPIO7, TCH7, ADC1_CH6, 8 GPIO15, RTC, U0RTS, ADC2_CH4, XTAL_32K_P, 9 GPIO16, RTC, U0CTS, ADC2_CH5, XTAL_32K_N, 10 GPIO17, RTC_GPIO17, U1TXD, ADC2_CH6, 11 GPIO18, RTC_GPIO18, U1RXD, ADC2_CH7, CLK_OUT3, 12 GPIO8, RTC, TCH8, ADC1_CH7, SUBSPICS1, 13 USB_D-, RTC, GPIO19, U1RTS, ADC2_CH8, CLK_OUT2, 14 USB_D+, RTC, GPIO20, U1CTS, ADC2_CH9, CLK_OUT1, 15 GPIO3, RTC, TCH3, ADC1_CH2, 16 GPIO46, 17 GPIO9, RTC, TCH9, ADC1_CH8, FSPIHD, SUBSPIHD, 18 GPIO10, RTC, TCH10, ADC1_CH9, FSPICS0, FSPIIO4, SUBSPICS0, 19 GPIO11, RTC, TCH11, ADC2_CH0, FSPID, FSPIIO5, SUBSPID, 20 GPIO12, RTC, TCH12, ADC2_CH1, FSPICLK, FSPIIO6, SUBSPICLK, 21 GPIO13, RTC, TCH13, ADC2_CH2, FSPIQ, FSPIIO7, SUBSPIQ, 22 GPIO14, RTC, TCH14, ADC2_CH3, FSPIWP, FSPIDQS, SUBSPIWP, 23 GPIO21, RTC, 24 GPIO47, SPICLK_P_DIFF,SUBSPICLK_P_DIFF, 25 GPIO48, SPICLK_N_DIFF, SUBSPICLK_N_DIFF, 26 GPIO45, 27 GPIO0, RTC, 28 GPIO35, SPIIO6, FSPID, SUBSPID, 29 GPIO36, SPIIO7, FSPICLK, SUBSPICLK, 30 GPIO37, SPIDQS, FSPIQ, SUBSPIQ, 31 GPIO38, FSPIWP, SUBSPIWP, 32 MTCK, GPIO39, CLK_OUT3, SUBSPICS1, 33 MTDO, GPIO40, CLK_OUT2, 34 MTDI, GPIO41, CLK_OUT1, 35 MTMS, GPIO42, 36 U0RXD, GPIO44, CLK_OUT2, 37 U0TXD, GPIO43, CLK_OUT1, 38 GPIO2, RTC, TOUCH2, ADC1_CH1, 39 GPIO1, RTC, TCH1, ADC1_CH0, 40 GND_40, 41 GND_EPAD_41, 42 GND_EPAD_42, 43 GND_EPAD_43, 44 GND_EPAD_44, 45 GND_EPAD_45, 46 GND_EPAD_46, 47 GND_EPAD_47, 48 GND_EPAD_48, 49 GND_EPAD_49

## FT231XQ-R
designator U?
IC USB SERIAL FULL UART 20QFN; Manufacturer: FTDI; Power Supplies: 3.3/5V; Max Supply Current: 8.4mA; Max Supply Voltage: 5.5V; Min Supply Voltage: 2.97V; Nominal Supply Voltage: 5V; Qualification Status: Not Qualified; Supplier: Digikey; Supplier Part Number: 768-1128-1-ND; Manufacturer Part Number: FT231XQ-R; RoHS: Yes; Category: Interface ICs; Stock: 67762; Pricing: 1=2.34, 25=2.27, 100=2.2, 250=2, 500=1.82002, 1000=1.7625 (USD); Case/Package: HVQCCN; Pins: 20; Package Shape: Square; Min Operating Temperature: -40°C; Max Operating Temperature: 85°C; JESD-30 Code: S-XQCC-N20; Package Style: CHIP CARRIER, HEAT SINK/SLUG, VERY THIN PROFILEMeter; Surface Mount: Yes; Technology: CMOS; Terminal Form: No Lead; Terminal Position: QUAD; Length: 4mm; Width: 4mm; Height - Seated (Max): 0.8mm; Terminal Pitch: 0.5mm; Temperature Grade: INDUSTRIAL; Reach SVHC Compliant: Yes; RoHS Compliant: Yes; ComponentLink1URL: https://datasheet.ciiva.com:443/pdfs/VipMasterIC/IC/FTDI/FTDIS00099/FTDIS00099-1.pdf?src-supplier=IHS+Markit; ComponentLink1Description: https://datasheet.ciiva.com:443/pdfs/VipMasterIC/IC/FTDI/FTDIS00099/FTDIS00099-1.pdf?src-supplier=IHS+Markit; ComponentLink2URL: https://datasheet.ciiva.com/1787/ds-ft231x-1787312.pdf?src-supplier=Digikey; ComponentLink2Description: https://datasheet.ciiva.com/1787/ds-ft231x-1787312.pdf?src-supplier=Digikey; ComponentLink3URL: https://datasheet.ciiva.com/4787/ds-ft231x-13571-4787570.pdf?src-supplier=Mouser; ComponentLink3Description: https://datasheet.ciiva.com/4787/ds-ft231x-13571-4787570.pdf?src-supplier=Mouser; ComponentLink4URL: https://datasheet.ciiva.com/30475/0900766b811020d3-30475405.pdf?src-supplier=Rs; ComponentLink4Description: https://datasheet.ciiva.com/30475/0900766b811020d3-30475405.pdf?src-supplier=Rs; ComponentLink5URL: https://datasheet.ciiva.com/1787/ft-x-series-1787313.pdf?src-supplier=Digikey; ComponentLink5Description: https://datasheet.ciiva.com/1787/ft-x-series-1787313.pdf?src-supplier=Digikey; ComponentLink6URL: https://datasheet.ciiva.com/1787/ft-x-series-1787314.pdf?src-supplier=Digikey; ComponentLink6Description: https://datasheet.ciiva.com/1787/ft-x-series-1787314.pdf?src-supplier=Digikey; LCSC Part Number: C132159
footprint FT231XQ-R
pins: 1 RXD, 2 ~{RI}, 3 GND, 4 ~{DSR}, 5 ~{DCD}, 6 ~{CTS}, 7 CBUS2, 8 USBDP, 9 USBDM, 10 3V3OUT, 11 ~{RESET}, 12 VCC, 13 GND, 14 CBUS1, 15 CBUS0, 16 CBUS3, 17 TXD, 18 ~{DTR}, 19 ~{RTS}, 20 VCCIO, 21 GND

## FTS-102-01-F-S
designator J?
CONN HEADER VERT 2POS 1.27MM; Manufacturer: Samtec; Number of Contacts: 2; Gender: Male; Supplier: Digikey; Supplier Part Number: SAM15176-ND; Manufacturer Part Number: FTS-102-01-F-S; RoHS: Yes; Category: Connectors; Stock: 848; Pricing: 1=0.49, 50=0.4252, 100=0.3608, 500=0.2994, 1000=0.2625 (USD); Mounting Technology: Through Hole; Contact Plating: Gold; Contact Material: Bronze; Contact Shape: Square; Contact Finish - Mating: GOLD; Insulation Material: Polymer; Insulation Color: Black; Min Operating Temperature: -55°C; Max Operating Temperature: 125°C; Number of Rows: 1; Packaging: Bulk; Termination: Solder; Fastening Type: Pull; Series: FTS; Contact Type: Male Pin; Number of Positions: 2; Pitch: 1.27mm; Radiation Hardening: No; RoHS Compliant: Yes; Flammability Rating: UL94 V-0; ComponentLink1URL: http://www.samtec.com/documents/webfiles/pdf/FTS.pdf?src-supplier=Avnet; ComponentLink1Description: http://www.samtec.com/documents/webfiles/pdf/FTS.pdf?src-supplier=Avnet; LCSC Part Number: C6045317
footprint 2x1P_Male_1.27
pins: 1, 2

## FTS-103-01-F-S
designator J?
CONN HEADER VERT 3POS 1.27MM; Manufacturer: Samtec; Manufacturer Series: FTS; Connector Type: BOARD CONNECTOR; Option: General Purpose; Additional Feature: Low Profile; Filter Feature: No; Number of Rows Loaded: 1; Number of Contacts: 3; Supplier: Digikey; Supplier Part Number: 612-FTS-103-01-F-S-ND; Manufacturer Part Number: FTS-103-01-F-S; RoHS: Yes; Category: Connectors; Stock: 3030; Pricing: 1=0.73, 50=0.6378, 100=0.5407, 500=0.4491, 1000=0.4 (USD); Mounting Technology: Board; Contact Material: Bronze; Contact Finish - Mating: GOLD (3) OVER NICKEL (50); Contact Finish - Termination: Matte Tin (Sn) - with Nickel (Ni) barrier; JESD-609 Code: e3; Contact Gender: Male; Mixed Contacts: No; Mounting Style: STRAIGHT; Termination: Solder; Terminal Pitch: 1.27mm; Flammability Rating: UL94 V-0; DIN Conformance: No; IEC Conformance: No; MIL Conformance: No; Reach SVHC Compliant: Yes; RoHS Compliant: Yes; ComponentLink1URL: https://datasheet.ciiva.com:443/pdfs/VipMasterIC/IC/SAMI/SAMI-S-A0001504673/SAMI-S-A0001504673-1.pdf?src-supplier=IHS+Markit; ComponentLink1Description: https://datasheet.ciiva.com:443/pdfs/VipMasterIC/IC/SAMI/SAMI-S-A0001504673/SAMI-S-A0001504673-1.pdf?src-supplier=IHS+Markit; ComponentLink2URL: http://suddendocs.samtec.com/prints/fts-1xx-xx-xx-xx-xx-mkt.pdf?src-supplier=Digikey; ComponentLink2Description: http://suddendocs.samtec.com/prints/fts-1xx-xx-xx-xx-xx-mkt.pdf?src-supplier=Digikey; ComponentLink3URL: http://www.samtec.com/documents/webfiles/pdf/FTS.pdf?src-supplier=Avnet; ComponentLink3Description: http://www.samtec.com/documents/webfiles/pdf/FTS.pdf?src-supplier=Avnet; ComponentLink4URL: https://datasheet.octopart.com/FTS-103-01-F-S-Samtec-datasheet-116535195.pdf?src-supplier=Toby+Electronics; ComponentLink4Description: https://datasheet.octopart.com/FTS-103-01-F-S-Samtec-datasheet-116535195.pdf?src-supplier=Toby+Electronics; ComponentLink5URL: https://datasheet.octopart.com/FTS-103-01-F-S-Samtec-datasheet-151470456.pdf?src-supplier=Sager+Electronics; ComponentLink5Description: https://datasheet.octopart.com/FTS-103-01-F-S-Samtec-datasheet-151470456.pdf?src-supplier=Sager+Electronics; LCSC Part Number: C3333578
footprint 3x1P_Male_1.27
pins: 1, 2, 3

## GMSB0532112YEU
designator J?, comment USB MINI_F
MINI USB B TYPE RECEPTACLE 5POS; Manufacturer: Amphenol; Manufacturer Part Number: GMSB0532112YEU; Supplier: Digikey; Supplier Part Number: 664-GMSB0532112YEUDKR-ND; RoHS: No; Category: Connectors; Stock: 5615; Pricing: 1=0.55, 10=0.476, 25=0.4352, 50=0.4094, 100=0.3924, 250=0.35824, 500=0.34118 (USD)
footprint USB_B_Female
pins: 1 VBUS (power), 2 D-, 3 D+, 4 ID, 5 GND (power), S1 SHIELD, S2 SHIELD, S3 SHIELD, S4 SHIELD

## GRM155R60J106ME05D
designator C?, comment 10uF, 6.3V, 0402
10 µF ±20% 6.3V Ceramic Capacitor X5R 0402 (1005 Metric); Manufacturer: Murata; Manufacturer Part Number: GRM155R60J106ME05D; Material: 4241ConductorMaterial; Dielectric: 1537DielectricType; Supplier: Future Electronics; Supplier Part Number: 5135029; RoHS: Yes; Category: Ceramic Capacitors; Stock: 20000; Pricing: 10000=0.0104, 30000=0.0099, 50000=0.0097, 100000=0.0095, 200000=0.0091 (USD); Case/Package: 343Case; Min Operating Temperature: -55°C; Max Operating Temperature: 85°C; Value: 10uF; Tolerance: 20%; Voltage Rating: 6.3V; Voltage Rating (DC): 6.3V; Length: 1mm; Width: 500um; Height: 700um; Thickness: 500um; ComponentLink1URL: https://datasheet.octopart.com/GRM155R60J106ME05D-Murata-datasheet-155239051.pdf?src-supplier=Element14; ComponentLink1Description: https://datasheet.octopart.com/GRM155R60J106ME05D-Murata-datasheet-155239051.pdf?src-supplier=Element14; ComponentLink2URL: https://datasheet.octopart.com/GRM155R60J106ME05D-Murata-datasheet-165579666.pdf?src-supplier=TME; ComponentLink2Description: https://datasheet.octopart.com/GRM155R60J106ME05D-Murata-datasheet-165579666.pdf?src-supplier=TME; LCSC Part Number: C723895
footprint CAP_0402
pins: 1, 2

## M50-1930005
designator LINK?  (mechanical)
CONN SHUNT 1.27MM BLUE; Manufacturer: Harwin; Manufacturer Series: M50; Connector Type: Interconnection Device; Body/Shell Style: PLUG; Contact Pattern: RECTANGULAR; Contact Resistance: 20mR; Durability: 300Cycles; Insulation Resistance: 1GR; Number Of Connectors: 1; Rated Current (Signal): 1A; Number of Contacts: 2; Dielectric Withstanding Voltage (AC): 500V; Body Breadth: 0.059inch; Body Length: 0.098inch; Mating Contact Pitch: 0.05inch; Body Depth: 0.118inch; Reference Standard: UL; Reliability: COMMERCIAL; Supplier: Digikey; Supplier Part Number: 952-1728-ND; Manufacturer Part Number: M50-1930005; RoHS: Yes; Category: Headers and Wire Housings; Stock: 11279; Pricing: 1=0.43, 10=0.363, 25=0.3196, 50=0.2936, 100=0.2821, 250=0.25332, 500=0.2418, 1000=0.2015, 3000=0.18422 (USD); Contact Finish - Mating: AU ON NI; Insulation Color: Blue; Insulation Material: Nylon; Contact Material: Copper Alloy; Min Operating Temperature: -40°C; Max Operating Temperature: 105°C; Contact Gender: Female; Mounting Style: STRAIGHT; Number of Rows Loaded: 1; Reach SVHC Compliant: Yes; RoHS Compliant: Yes; ComponentLink1URL: https://datasheet.ciiva.com:443/pdfs/VipMasterIC/IC/HRWN/HRWNS04645/HRWNS04645-1.pdf?src-supplier=IHS+Markit; ComponentLink1Description: https://datasheet.ciiva.com:443/pdfs/VipMasterIC/IC/HRWN/HRWNS04645/HRWNS04645-1.pdf?src-supplier=IHS+Markit; ComponentLink2URL: https://datasheet.ciiva.com/767/m50-19x-767920.pdf?src-supplier=Digikey; ComponentLink2Description: https://datasheet.ciiva.com/767/m50-19x-767920.pdf?src-supplier=Digikey; ComponentLink3URL: https://datasheet.ciiva.com/1412/1836978-1412126.pdf?src-supplier=Element14; ComponentLink3Description: https://datasheet.ciiva.com/1412/1836978-1412126.pdf?src-supplier=Element14; ComponentLink4URL: https://datasheet.ciiva.com/1456/m50-19x-1456641.pdf?src-supplier=Newark; ComponentLink4Description: https://datasheet.ciiva.com/1456/m50-19x-1456641.pdf?src-supplier=Newark; LCSC Part Number: C6586863

## PTS645SM43SMTR92LFS
designator SW?
SWITCH TACTILE SPST-NO 0.05A 12V; Manufacturer: ITT C&K; Actuator Type: Pushbutton; Contact Current(DC)-Max: 50mA; Contact DC Max Rating R Load: 0.05A@12VDC; Contact Resistance: 0.1mR; Dielectric Withstand Volts: 250VACV; Electrical Life: 100000Cycles; Insulation Resistance: 100GR; PCB Hole Count: 4; Switch Action: MOMENTARY; Switch Function: SPST; Switch Type: Keypad; Body Breadth: 5.9944inch; Body Height: 3.4544mm; Body Length or Diameter: 5.9944mm; Supplier: Digikey; Supplier Part Number: CKN9112CT-ND; Manufacturer Part Number: PTS645SM43SMTR92LFS; RoHS: Yes; Category: Tactile Switches; Stock: 311585; Pricing: 1=0.32, 10=0.308, 25=0.2916, 100=0.2641, 250=0.24072, 500=0.22376 (USD); Mounting Technology: Surface Mount; Terminal Finish: Silver; Min Operating Temperature: -20°C; Max Operating Temperature: 60°C; JESD-609 Code: e4; Contact Voltage(DC)-Max: 12V; Termination: Solder; Terminal Length: 0.138inch; Reach SVHC Compliant: Yes; RoHS Compliant: Yes; ComponentLink1URL: https://datasheet.ciiva.com:443/pdfs/VipMasterIC/IC/CKCI/CKCI-S-A0001796527/CKCI-S-A0001796842-1.pdf?src-supplier=IHS+Markit; ComponentLink1Description: https://datasheet.ciiva.com:443/pdfs/VipMasterIC/IC/CKCI/CKCI-S-A0001796527/CKCI-S-A0001796842-1.pdf?src-supplier=IHS+Markit; ComponentLink2URL: https://datasheet.ciiva.com/29903/getdatasheetpartid-786341-29903846.pdf?src-supplier=Verical; ComponentLink2Description: https://datasheet.ciiva.com/29903/getdatasheetpartid-786341-29903846.pdf?src-supplier=Verical; ComponentLink3URL: https://datasheet.ciiva.com/14920/pts645-14920735.pdf?src-supplier=Digikey; ComponentLink3Description: https://datasheet.ciiva.com/14920/pts645-14920735.pdf?src-supplier=Digikey; ComponentLink4URL: https://datasheet.ciiva.com/14920/pts645-14920734.pdf?src-supplier=Digikey; ComponentLink4Description: https://datasheet.ciiva.com/14920/pts645-14920734.pdf?src-supplier=Digikey; LCSC Part Number: C221880
footprint FP-PTS645SM43SMTR92LFS-MFG
pins: 1, 2, 3, 4

## RC0402FR-071KL
designator R?, comment 1k, 0402
RES 1K OHM 1% 1/16W 0402; Manufacturer: Yageo; Manufacturer Part Number: RC0402FR-071KL; Value: 1kR; Temperature Coefficient: 100ppm/°C; Power Rating: 62.5mW; Voltage Rating: 50V; Max Power Dissipation: 63mW; Supplier: Digikey; Supplier Part Number: 311-1.00KLRCT-ND; RoHS: Yes; Category: Chip SMD Resistors; Stock: 8231639; Pricing: 1=0.1, 10=0.015, 50=0.0088, 100=0.0073, 500=0.00488, 1000=0.00417, 5000=0.00297 (USD); Case/Package: 0402; Pins: 2; Case Code (Imperial): 0402; Case Code (Metric): 1005; Min Operating Temperature: -55°C; Max Operating Temperature: 155°C; Tolerance: 1%; Packaging: Tape and Reel; Resistor Type: Thick Film; Voltage Rating (DC): 50V; Termination: SMD/SMT; Features: Moisture Resistant; Series: RC; Number of Terminations: 2; Resistance Tolerance: 1%; Construction: Rectangular; Technology: THICK FILM; Voltage Rating (AC): 50V; Length: 1mm; Width: 0.5mm; Height: 0.32mm; Depth: 0.5mm; Reach SVHC Compliant: No; Lead Free: 5697LeadFree; Military Standard: Not; RoHS Compliant: Yes; ComponentLink1URL: https://datasheet.ciiva.com/11819/0900766b80c66297-11819477.pdf?src-supplier=Rs; ComponentLink1Description: https://datasheet.ciiva.com/11819/0900766b80c66297-11819477.pdf?src-supplier=Rs; ComponentLink2URL: https://datasheet.ciiva.com/7983/1018594-7983502.pdf?src-supplier=Element14; ComponentLink2Description: https://datasheet.ciiva.com/7983/1018594-7983502.pdf?src-supplier=Element14; ComponentLink3URL: https://datasheet.ciiva.com/22747/1018594-22747513.pdf?src-supplier=Element14; ComponentLink3Description: https://datasheet.ciiva.com/22747/1018594-22747513.pdf?src-supplier=Element14; ComponentLink4URL: https://datasheet.ciiva.com/12666/pyu-rc0402-51-rohs-l-6-r-12666741.pdf?src-supplier=Mouser; ComponentLink4Description: https://datasheet.ciiva.com/12666/pyu-rc0402-51-rohs-l-6-r-12666741.pdf?src-supplier=Mouser; ComponentLink5URL: https://datasheet.ciiva.com/7849/1018594-7849869.pdf?src-supplier=Element14; ComponentLink5Description: https://datasheet.ciiva.com/7849/1018594-7849869.pdf?src-supplier=Element14; ComponentLink6URL: https://datasheet.ciiva.com/7849/1018594-7849871.pdf?src-supplier=Element14; ComponentLink6Description: https://datasheet.ciiva.com/7849/1018594-7849871.pdf?src-supplier=Element14; ComponentLink7URL: https://datasheet.ciiva.com/17063/pyu-rc0402-51-rohs-l-6-r-17063193.pdf?src-supplier=Future+Electronics; ComponentLink7Description: https://datasheet.ciiva.com/17063/pyu-rc0402-51-rohs-l-6-r-17063193.pdf?src-supplier=Future+Electronics; LCSC Part Number: C106235
footprint RES_0402
pins: 1, 2

## RC0402FR-074K7L
designator R?, comment 4.7k, 0402
RES 4.7K OHM 1% 1/16W 0402; Manufacturer: Yageo; Manufacturer Part Number: RC0402FR-074K7L; Additional Feature: LASER TRIMMABLE; Power: 62.5mW; Rated Temperature: 70°C; Value: 4.7kR; Temperature Coefficient: 100ppm/°C; Working Voltage: 50V; Package Height: 0.35mm; Package Length: 1mm; Package Width: 0.5mm; Supplier: Mouser; Supplier Part Number: 603-RC0402FR-074K7L; RoHS: Yes; Category: Chip SMD Resistors; Stock: 1678412; Pricing: 1=0.1, 10=0.009, 50=0.009, 100=0.005, 1000=0.005, 10000=0.002 (USD); Mounting Technology: Surface Mount; Pins: 2; Package Shape: Rectangular; Case/Package: 0402; Terminal Finish: Nickel; Min Operating Temperature: -55°C; Max Operating Temperature: 155°C; Tolerance: 1%; JESD-609 Code: e3; Resistor Type: FIXED RESISTOR; Construction: Chip; Package Style: SMTMeter; Packaging: Tape and Reel; Technology: METAL GLAZE/THICK FILM; Termination: Wraparound; Reach SVHC Compliant: Yes; RoHS Compliant: Yes; ComponentLink1URL: https://datasheet.ciiva.com:443/pdfs/VipMasterIC/IC/YAGO/YAGO-S-A0008145938/YAGO-S-A0008145938-1.pdf?src-supplier=IHS+Markit; ComponentLink1Description: https://datasheet.ciiva.com:443/pdfs/VipMasterIC/IC/YAGO/YAGO-S-A0008145938/YAGO-S-A0008145938-1.pdf?src-supplier=IHS+Markit; ComponentLink2URL: https://datasheet.ciiva.com/22661/1686128-22661342.pdf?src-supplier=Element14; ComponentLink2Description: https://datasheet.ciiva.com/22661/1686128-22661342.pdf?src-supplier=Element14; ComponentLink3URL: https://datasheet.ciiva.com/7850/1018594-7850022.pdf?src-supplier=Element14; ComponentLink3Description: https://datasheet.ciiva.com/7850/1018594-7850022.pdf?src-supplier=Element14; ComponentLink4URL: https://datasheet.ciiva.com/7850/1018594-7850023.pdf?src-supplier=Element14; ComponentLink4Description: https://datasheet.ciiva.com/7850/1018594-7850023.pdf?src-supplier=Element14; ComponentLink5URL: https://datasheet.ciiva.com/15215/getdatasheetpartid-328119-15215035.pdf?src-supplier=Verical; ComponentLink5Description: https://datasheet.ciiva.com/15215/getdatasheetpartid-328119-15215035.pdf?src-supplier=Verical; LCSC Part Number: C105871
footprint RES_0402
pins: 1, 2

## RC0402FR-075K1L
designator R?, comment 5.1K, 0402
5.1kOhm 1% 1/16W 0402; Manufacturer: Yageo; Manufacturer Part Number: RC0402FR-075K1L; Additional Feature: LASER TRIMMABLE; Power: 62.5mW; Rated Temperature: 70°C; Value: 5.1kR; Temperature Coefficient: 100ppm/°C; Working Voltage: 50V; Package Height: 0.35mm; Package Length: 1mm; Package Width: 0.5mm; Supplier: Digikey; Supplier Part Number: 311-5.10KLRCT-ND; RoHS: Yes; Category: Chip SMD Resistors; Stock: 360279; Pricing: 1=0.1, 10=0.015, 50=0.0088, 100=0.0073, 500=0.00488, 1000=0.00417, 5000=0.00297 (USD); Mounting Technology: Surface Mount; Pins: 2; Package Shape: Rectangular; Case/Package: 0402; Terminal Finish: Nickel; Min Operating Temperature: -55°C; Max Operating Temperature: 155°C; Tolerance: 1%; JESD-609 Code: e3; Resistor Type: FIXED RESISTOR; Construction: Chip; Package Style: SMTMeter; Packaging: Tape and Reel; Technology: METAL GLAZE/THICK FILM; Termination: Wraparound; Reach SVHC Compliant: Yes; RoHS Compliant: Yes; ComponentLink1URL: https://datasheet.ciiva.com:443/pdfs/VipMasterIC/IC/YAGO/YAGO-S-A0008145938/YAGO-S-A0008145938-1.pdf?src-supplier=IHS+Markit; ComponentLink1Description: https://datasheet.ciiva.com:443/pdfs/VipMasterIC/IC/YAGO/YAGO-S-A0008145938/YAGO-S-A0008145938-1.pdf?src-supplier=IHS+Markit; LCSC Part Number: C105872
footprint RES_0402
pins: 1, 2